# EAGLE library part CC2652P1FRGZR (library CC2652P1FRGZR)
RF Microcontrollers - MCU SimpleLink Arm Cortex-M4F multiprotocol 2.4 GHz wireless MCU with integrated power amplifier 48-VQFN -40 to 85 Source: Datasheet <https://www.ti.com/lit/ds/symlink/cc2652p.pdf>
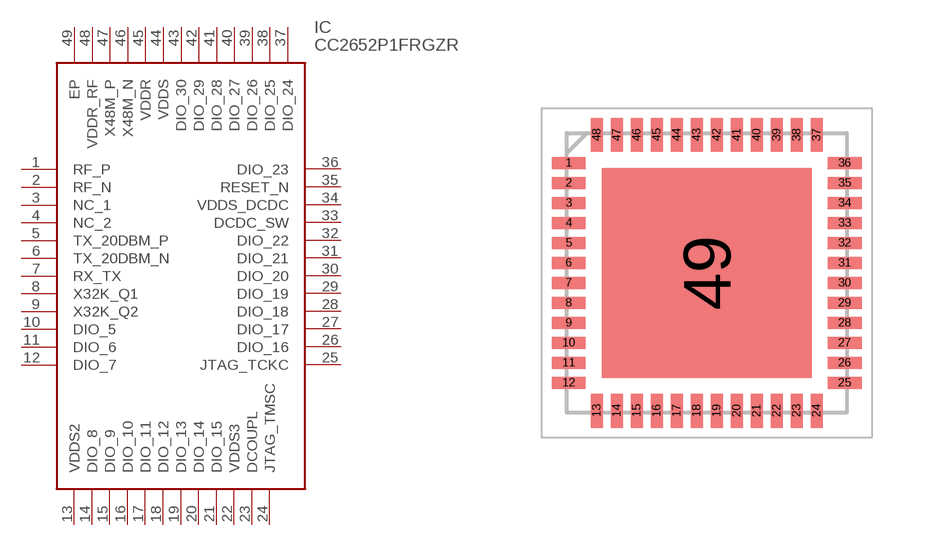
[diagram p0: symbol with the pads of QFN50P700X700X100-49N; footprint QFN50P700X700X100-49N]

Designator prefix IC

## CC2652P1FRGZR (Arrow_Part_Number: CC2652P1FRGZR; Arrow_Price-Stock: https://www.arrow.com/en/products/cc2652p1frgzr/texas-instruments?utm_currency=USD&region=nac; Description: RF Microcontrollers - MCU SimpleLink Arm Cortex-M4F multiprotocol 2.4 GHz wireless MCU with integrated power amplifier 48-VQFN -40 to 85; Height: 1mm; Manufacturer_Name: Texas Instruments; Manufacturer_Part_Number: CC2652P1FRGZR; Mouser_Part_Number: 595-CC2652P1FRGZR; Mouser_Price-Stock: https://www.mouser.co.uk/ProductDetail/Texas-Instruments/CC2652P1FRGZR?qs=Cb2nCFKsA8p3CBXHu0QqCg%3D%3D)  [QFN50P700X700X100-49N]
1  RF_P
2  RF_N
3  NC_1
4  NC_2
5  TX_20DBM_P
6  TX_20DBM_N
7  RX_TX
8  X32K_Q1
9  X32K_Q2
10  DIO_5
11  DIO_6
12  DIO_7
13  VDDS2
14  DIO_8
15  DIO_9
16  DIO_10
17  DIO_11
18  DIO_12
19  DIO_13
20  DIO_14
21  DIO_15
22  VDDS3
23  DCOUPL
24  JTAG_TMSC
25  JTAG_TCKC
26  DIO_16
27  DIO_17
28  DIO_18
29  DIO_19
30  DIO_20
31  DIO_21
32  DIO_22
33  DCDC_SW
34  VDDS_DCDC
35  RESET_N
36  DIO_23
37  DIO_24
38  DIO_25
39  DIO_26
40  DIO_27
41  DIO_28
42  DIO_29
43  DIO_30
44  VDDS
45  VDDR
46  X48M_N
47  X48M_P
48  VDDR_RF
49  EP

## Footprint QFN50P700X700X100-49N (pad centres in mm)
RGZ0048A
smd 0.85 x 0.3: 1 -3.45,2.75; 2 -3.45,2.25; 3 -3.45,1.75; 4 -3.45,1.25; 5 -3.45,0.75; 6 -3.45,0.25; 7 -3.45,-0.25; 8 -3.45,-0.75; 9 -3.45,-1.25; 10 -3.45,-1.75; 11 -3.45,-2.25; 12 -3.45,-2.75; 25 3.45,-2.75; 26 3.45,-2.25; 27 3.45,-1.75; 28 3.45,-1.25; 29 3.45,-0.75; 30 3.45,-0.25; 31 3.45,0.25; 32 3.45,0.75; 33 3.45,1.25; 34 3.45,1.75; 35 3.45,2.25; 36 3.45,2.75
smd 0.3 x 0.85: 13 -2.75,-3.45; 14 -2.25,-3.45; 15 -1.75,-3.45; 16 -1.25,-3.45; 17 -0.75,-3.45; 18 -0.25,-3.45; 19 0.25,-3.45; 20 0.75,-3.45; 21 1.25,-3.45; 22 1.75,-3.45; 23 2.25,-3.45; 24 2.75,-3.45; 37 2.75,3.45; 38 2.25,3.45; 39 1.75,3.45; 40 1.25,3.45; 41 0.75,3.45; 42 0.25,3.45; 43 -0.25,3.45; 44 -0.75,3.45; 45 -1.25,3.45; 46 -1.75,3.45; 47 -2.25,3.45; 48 -2.75,3.45
smd 5.25 x 5.25: 49 0,0